# Altium schematic symbol library SCH - INTERFACE - RS422 RS485 - DS26C31TMX.SCHLIB: 1 symbol
Pins are listed as number, name and electrical type; pins without a type are passive.

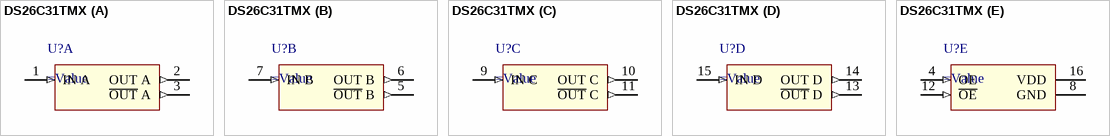
[diagram p0: symbol DS26C31TMX]

## DS26C31TMX
designator U?
CMOS Quad Tri-State Differential Line Drivers, 16-pin Narrow SOIC, Pb-Free
part A pins: 1 IN A (in), 2 OUT A (out), 3 ~{OUT} A (out)
part B pins: 5 ~{OUT} B (out), 6 OUT B (out), 7 IN B (in)
part C pins: 9 IN C (in), 10 OUT C (out), 11 ~{OUT} C (out)
part D pins: 13 ~{OUT} D (out), 14 OUT D (out), 15 IN D (in)
part E pins: 4 OE (in), 8 GND (power), 12 ~{OE} (in), 16 VDD (power)